# Altium schematic symbol library Semiconductors.SchLib: 7 symbols
Pins are listed as number, name and electrical type; pins without a type are passive.

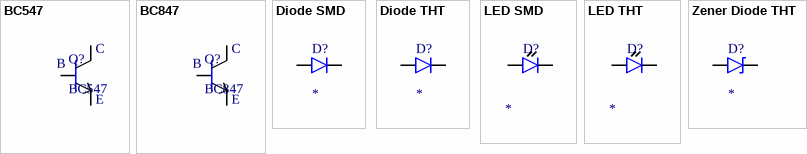
[diagram p0: symbols BC547 to Zener Diode THT]

## BC547
designator Q?
BC547 NPN Transistor THT TO-92 Package; Package Type: THT; Type: NPN Transistor; Package: TO-92; Group: *
footprint TO-92 wide (TO-92 THT package wide legs)
footprint TO-92 narrow (TO-92 THT package narrow legs)
pins: 1, 2, 3
text: C; B; E

## BC847
designator Q?
BC847 NPN Transistor SMD SOT-23-3 Package; Package Type: SMD; Type: NPN Transistor; Package: SOT-23-3; Group: *
footprint SOT-23-3 (SOT-23 SMD package 3 pin)
pins: 1, 2, 3
text: C; B; E

## Diode SMD
designator D?, comment DIODE  (value not drawn)
Generic SMD Rectifier Diode 0805 Package; Max reverse voltage: *; Max current: *; Forward voltage: *; Package Type: SMD; Type: Diode; Model: *
footprint Diode SMD 0805 (SMD diode 0805 package)
pins: 1, 2

## Diode THT
designator D?, comment DIODE  (value not drawn)
Generic THT Axial Rectifier Diode 10 mm Pitch; Max reverse voltage: *; Max current: *; Forward voltage: *; Package Type: THT; Type: Diode; Model: *
footprint Diode THT 10 mm (THT axial diode 10 mm pitch)
pins: 1, 2

## LED SMD
designator D?, comment LED  (value not drawn)
SMD LED Diode 0805 Package; Forward voltage: *; Package Type: SMD; Type: LED; Color: *
footprint LED SMD 0805 (SMD LED diode 0805 package)
pins: 1, 2

## LED THT
designator D?, comment LED  (value not drawn)
THT LED Diode 5 mm Diameter; Forward voltage: *; Package Type: THT; Type: LED; Color: *
footprint LED THT 5 mm (THT LED diode 5 mm diameter)
pins: 1, 2

## Zener Diode THT
designator D?, comment ZENER  (value not drawn)
Generic THT Axial Zener Diode 10 mm Pitch; Zener voltage: *; Power diss: *; Package Type: THT; Type: Zener; Model: *
footprint Diode THT 10 mm (THT axial diode 10 mm pitch)
pins: 1, 2